# Altium schematic symbol library CON1X2.Schlib: 1 symbol
Pins are listed as number, name and electrical type; pins without a type are passive.

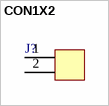
[diagram p0: symbol CON1X2]

## CON1X2
designator J?
pins: 1, 2
2 alternate drawings of the same symbol